# Altium schematic symbol library Switches.SchLib: 39 symbols
Pins are listed as number, name and electrical type; pins without a type are passive.

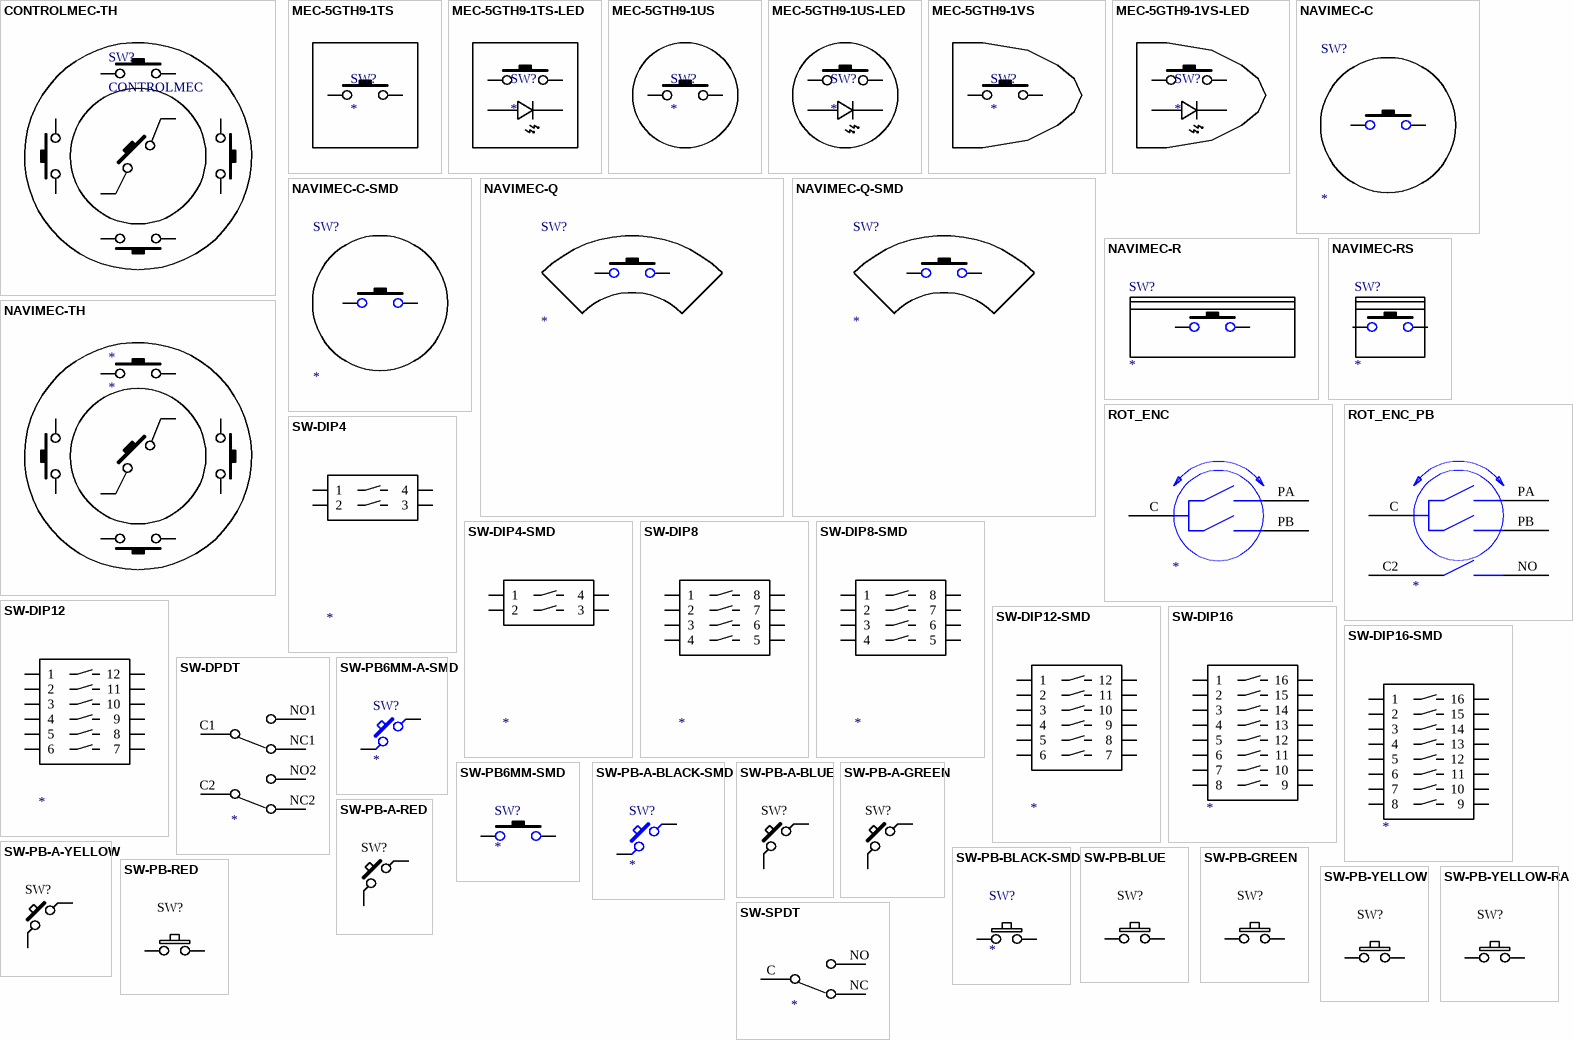
[diagram p0: symbols CONTROLMEC-TH to SW-SPDT]

## CONTROLMEC-TH
designator SW?, comment CONTROLMEC
footprint CONTROLMEC-FULL-TH
pins: B1, B2, L1, L2, M1, M2, R1, R2, T1, T2

## MEC-5GTH9-1TS
designator SW?
footprint MEC-5GTH9-1TS (MEC MULTIMEC 5G THROUGH HOLE + SQUARE CAP)
pins: 1, 2

## MEC-5GTH9-1TS-LED
designator SW?
footprint MEC-5GTH9-1TS (MEC MULTIMEC 5G THROUGH HOLE + SQUARE CAP)
pins: 1, 2, A, K

## MEC-5GTH9-1US
designator SW?
footprint MEC-5GTH9-1US (MEC MULTIMEC 5G THROUGH HOLE + ROUND CAP)
pins: 1, 2

## MEC-5GTH9-1US-LED
designator SW?
footprint MEC-5GTH9-1US (MEC MULTIMEC 5G THROUGH HOLE + ROUND CAP)
pins: 1, 2, A, K

## MEC-5GTH9-1VS
designator SW?
footprint MEC-5GTH9-1VS (MEC MULTIMEC 5G THROUGH HOLE + ARROW CAP)
pins: 1, 2

## MEC-5GTH9-1VS-LED
designator SW?
footprint MEC-5GTH9-1VS (MEC MULTIMEC 5G THROUGH HOLE + ARROW CAP)
pins: 1, 2, A, K

## NAVIMEC-C
designator SW?
NAVIMEC TH CENTER
footprint NAVIMEC-CENTER-TH
pins: 1, 2

## NAVIMEC-C-SMD
designator SW?
NAVIMEC SMD CENTER
footprint NAVIMEC-CENTER
pins: 1, 2

## NAVIMEC-Q
designator SW?
NAVIMEC TH QUADRANT
footprint NAVIMEC-QUADRANT-TH
pins: 1, 2

## NAVIMEC-Q-SMD
designator SW?
NAVIMEC SMD QUADRANT
footprint NAVIMEC-QUADRANT
pins: 1, 2

## NAVIMEC-R
designator SW?
NAVIMEC LONG RECTANGLE
footprint NAVIMEC-250
pins: 1, 2

## NAVIMEC-RS
designator SW?
NAVIMEC SMD SHORT RECTANGLE
pins: 1, 2

## NAVIMEC-TH
designator *
footprint NAVIMEC-FULL-TH
pins: B1, B2, L1, L2, M1, M2, R1, R2, T1, T2

## ROT_ENC
designator ?
ROTARY ENCODER
pins: C, PA, PB

## ROT_ENC_PB
designator ?
ROTARY ENCODER WITH PUSHBUTTON
pins: C, C2, NO, PA, PB

## SW-DIP4
designator ?
2 POLE DIP SWITCH
footprint SW-DIP4
pins: 1, 2, 3, 4

## SW-DIP4-SMD
designator ?
2 POLE DIP SWITCH SMD
footprint SO4SW
pins: 1, 2, 3, 4

## SW-DIP8
designator ?
4 POLE DIP SWITCH
footprint SW-DIP8
pins: 1, 2, 3, 4, 5, 6, 7, 8

## SW-DIP8-SMD
designator ?
4 POLE DIP SWITCH SMD
footprint SO8SW
pins: 1, 2, 3, 4, 5, 6, 7, 8

## SW-DIP12
designator ?
6 POLE DIP SWITCH
footprint SW-DIP12
pins: 1, 2, 3, 4, 5, 6, 7, 8, 9, 10, 11, 12

## SW-DIP12-SMD
designator ?
6 POLE DIP SWITCH SMD
footprint SO12SW
pins: 1, 2, 3, 4, 5, 6, 7, 8, 9, 10, 11, 12

## SW-DIP16
designator ?
8 POLE DIP SWITCH
footprint SW-DIP16
pins: 1, 2, 3, 4, 5, 6, 7, 8, 9, 10, 11, 12, 13, 14, 15, 16

## SW-DIP16-SMD
designator ?
8 POLE DIP SWITCH SMD
footprint SO16SW
pins: 1, 2, 3, 4, 5, 6, 7, 8, 9, 10, 11, 12, 13, 14, 15, 16

## SW-DPDT
designator ?
SWITCH DPDT PCB ANGLED
footprint MS-100968
pins: C1, C2, NC1, NC2, NO1, NO2

## SW-PB6MM-A-SMD
designator SW?
PUSHBUTTON SWITCH 6MM SMD
footprint SW-PB-SMD
pins: 1, 2

## SW-PB6MM-SMD
designator SW?
PUSHBUTTON SWITCH 6MM SMD
footprint SW-PB-SMD
pins: 1, 2

## SW-PB-A-BLACK-SMD
designator SW?
PUSHBUTTON SWITCH 6MM SMD
footprint SW-PB-SMD
pins: 1, 2

## SW-PB-A-BLUE
designator SW?
SW-D6-R / SW-DS-S / SW-14X14 / SW-7X7
footprint SW-PB-BLUE-ROUND4
pins: 1, 2

## SW-PB-A-GREEN
designator SW?
SW-D6-R / SW-DS-S / SW-14X14 / SW-7X7
footprint SW-PB-GREEN-ROUND4
pins: 1, 2

## SW-PB-A-RED
designator SW?
SW-D6-R / SW-DS-S / SW-14X14 / SW-7X7
footprint SW-PB-RED-ROUND4
pins: 1, 2

## SW-PB-A-YELLOW
designator SW?
SW-D6-R / SW-DS-S / SW-14X14 / SW-7X7
footprint SW-PB-YELLOW-ROUND4
pins: 1, 2

## SW-PB-BLACK-SMD
designator SW?
PUSHBUTTON SWITCH 6MM SMD
footprint SW-PB-SMD
pins: 1, 2

## SW-PB-BLUE
designator SW?
SW-D6-R / SW-DS-S / SW-14X14 / SW-7X7
footprint SW-PB-BLUE-ROUND4
pins: 1, 2

## SW-PB-GREEN
designator SW?
SW-D6-R / SW-DS-S / SW-14X14 / SW-7X7
footprint SW-PB-GREEN-ROUND4
pins: 1, 2

## SW-PB-RED
designator SW?
SW-D6-R / SW-DS-S / SW-14X14 / SW-7X7
footprint SW-PB-RED-ROUND4
pins: 1, 2

## SW-PB-YELLOW
designator SW?
SW-D6-R / SW-DS-S / SW-14X14 / SW-7X7
footprint SW-PB-YELLOW-ROUND4
pins: 1, 2

## SW-PB-YELLOW-RA
designator SW?
SW-D6-R / SW-DS-S / SW-14X14 / SW-7X7
footprint SW-OMRONRA-Y
pins: 1, 2

## SW-SPDT
designator ?
pins: C, NC, NO